# EAGLE library part YB-ESP32-S3-AMP (library yb-esp32-s3-amp)
Yellobyte YB-ESP32-S3-AMP (ESP32S3 Audio development board) Source: github.com/yellobyte <https://github.com/yellobyte/YB-ESP32-S3-AMP>
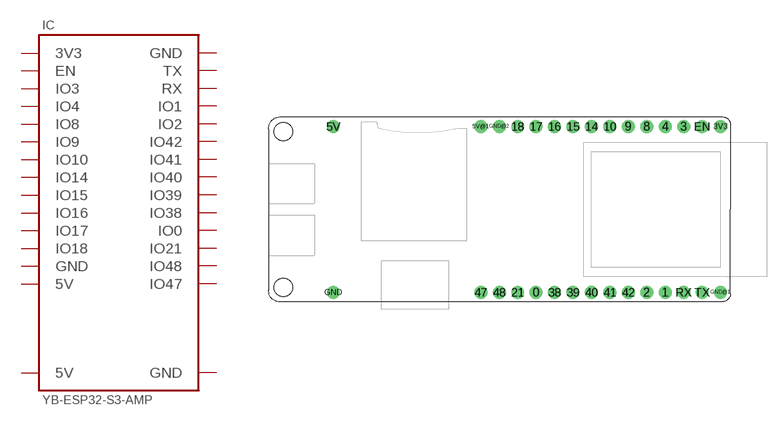
[diagram p0: symbol with the pads of YB-ESP32-S3-AMP; footprint YB-ESP32-S3-AMP]

Designator prefix IC

## YB-ESP32-S3-AMP  [YB-ESP32-S3-AMP]
0  IO0
1  IO1
2  IO2
3  IO3
3V3  3V3  pwr
4  IO4
5V  5V  pwr
5V@1  5V  pwr
8  IO8
9  IO9
10  IO10
14  IO14
15  IO15
16  IO16
17  IO17
18  IO18
21  IO21
38  IO38
39  IO39
40  IO40
41  IO41
42  IO42
47  IO47
48  IO48
EN  EN
GND  GND  pwr
GND@1  GND  pwr
GND@2  GND  pwr
RX  RX
TX  TX

## Footprint YB-ESP32-S3-AMP (pad centres in mm)
drill 1.016 pad 1.778: 0 27.969,-0.018; 1 45.749,-0.018; 2 43.209,-0.018; 3 48.289,22.843; 3V3 53.369,22.843; 4 45.749,22.843; 5V 0.029,22.843; 5V@1 20.349,22.843; 8 43.209,22.843; 9 40.669,22.843; 10 38.129,22.843; 14 35.589,22.843; 15 33.049,22.843; 16 30.509,22.843; 17 27.969,22.843; 18 25.429,22.843; 21 25.429,-0.018; 38 30.509,-0.018; 39 33.049,-0.018; 40 35.589,-0.018; 41 38.129,-0.018; 42 40.669,-0.018; 47 20.349,-0.018; 48 22.889,-0.018; EN 50.829,22.843; GND 0.029,-0.018; GND@1 53.369,-0.018; GND@2 22.889,22.843; RX 48.289,-0.018; TX 50.829,-0.018